# Altium integrated library SignalCommunications.IntLib: 804 symbols (part 9 of 10)
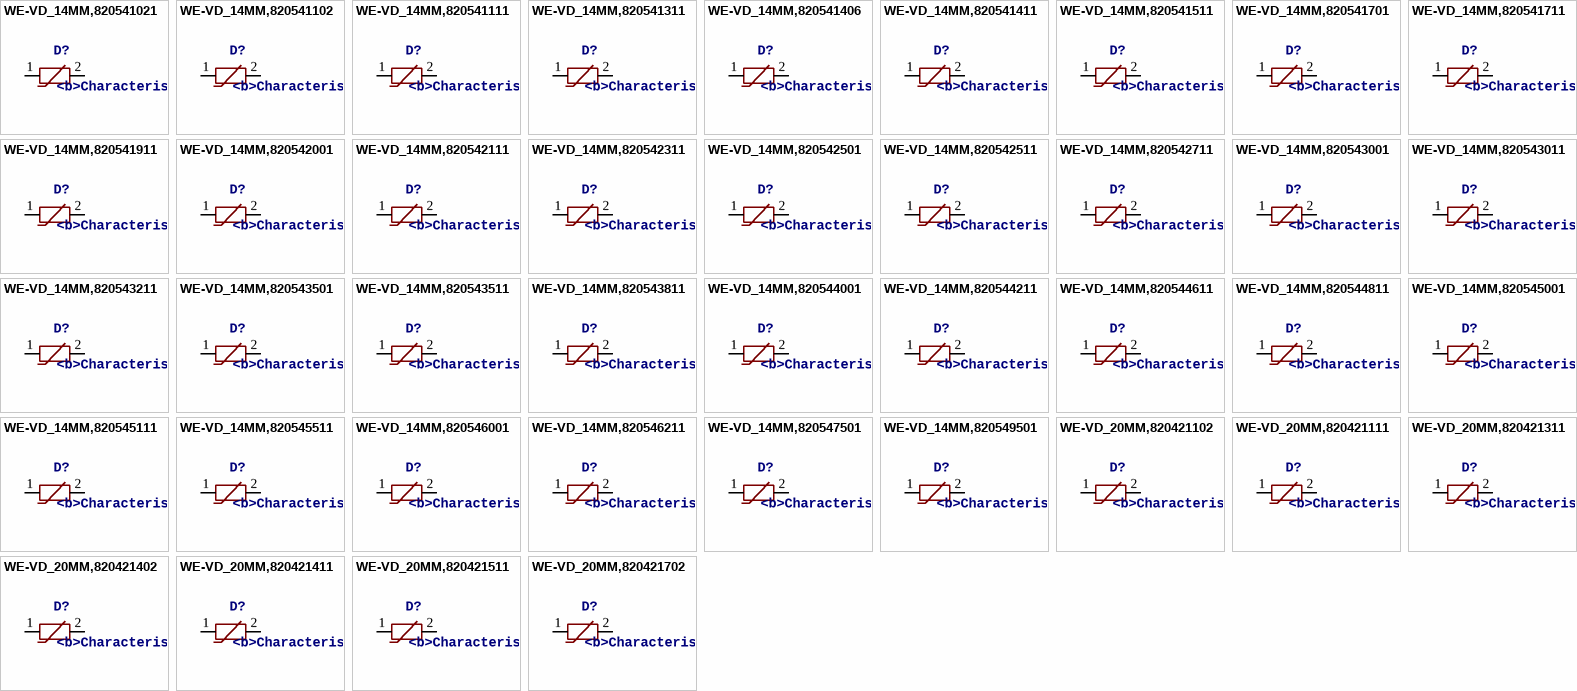
[diagram p50: symbols WE-VD_14MM,820541021 to WE-VD_20MM,820421702]

## WE-VD_14MM,820542511
designator D?, comment <b>Characteristics:</b> / <pre>•Low clamping voltage / •After a surge impulse the varistor works immediately / in normal mode so there is no slip current / •Excellent absorption at surge impulses</pre><br> / <b>Applications:</b> / <pre> / •12–48 VDC distribution / •110–400 V power supply / •Leakage of voltage peaks / •Surge protection in accordance with EN 61000-4-5 / </pre>
MANUFACTURER: Würth Elektronik eiSos GmbH; CREATED-BY: Christin Zierenner; COMPANY-URL: http://www.we-online.de; CREATED-DATE: May 2012; DATASHEET-URL: http://katalog.we-online.de/kataloge/eisos/media/pdf/820542511.pdf
footprint WE-VD_14MM-1.1
pins: 1, 2

## WE-VD_14MM,820542711
designator D?, comment <b>Characteristics:</b> / <pre>•Low clamping voltage / •After a surge impulse the varistor works immediately / in normal mode so there is no slip current / •Excellent absorption at surge impulses</pre><br> / <b>Applications:</b> / <pre> / •12–48 VDC distribution / •110–400 V power supply / •Leakage of voltage peaks / •Surge protection in accordance with EN 61000-4-5 / </pre>
MANUFACTURER: Würth Elektronik eiSos GmbH; CREATED-BY: Christin Zierenner; COMPANY-URL: http://www.we-online.de; CREATED-DATE: May 2012; DATASHEET-URL: http://katalog.we-online.de/kataloge/eisos/media/pdf/820542711.pdf
footprint WE-VD_14MM-1.3
pins: 1, 2

## WE-VD_14MM,820543001
designator D?, comment <b>Characteristics:</b> / <pre>•Low clamping voltage / •After a surge impulse the varistor works immediately / in normal mode so there is no slip current / •Excellent absorption at surge impulses</pre><br> / <b>Applications:</b> / <pre> / •12–48 VDC distribution / •110–400 V power supply / •Leakage of voltage peaks / •Surge protection in accordance with EN 61000-4-5 / </pre>
MANUFACTURER: Würth Elektronik eiSos GmbH; CREATED-BY: Christin Zierenner; COMPANY-URL: http://www.we-online.de; CREATED-DATE: May 2012; DATASHEET-URL: http://katalog.we-online.de/kataloge/eisos/media/pdf/820543001.pdf
footprint WE-VD_14MM-DIA
pins: 1, 2

## WE-VD_14MM,820543011
designator D?, comment <b>Characteristics:</b> / <pre>•Low clamping voltage / •After a surge impulse the varistor works immediately / in normal mode so there is no slip current / •Excellent absorption at surge impulses</pre><br> / <b>Applications:</b> / <pre> / •12–48 VDC distribution / •110–400 V power supply / •Leakage of voltage peaks / •Surge protection in accordance with EN 61000-4-5 / </pre>
MANUFACTURER: Würth Elektronik eiSos GmbH; CREATED-BY: Christin Zierenner; COMPANY-URL: http://www.we-online.de; CREATED-DATE: May 2012; DATASHEET-URL: http://katalog.we-online.de/kataloge/eisos/media/pdf/820543011.pdf
footprint WE-VD_14MM-1.5
pins: 1, 2

## WE-VD_14MM,820543211
designator D?, comment <b>Characteristics:</b> / <pre>•Low clamping voltage / •After a surge impulse the varistor works immediately / in normal mode so there is no slip current / •Excellent absorption at surge impulses</pre><br> / <b>Applications:</b> / <pre> / •12–48 VDC distribution / •110–400 V power supply / •Leakage of voltage peaks / •Surge protection in accordance with EN 61000-4-5 / </pre>
MANUFACTURER: Würth Elektronik eiSos GmbH; CREATED-BY: Christin Zierenner; COMPANY-URL: http://www.we-online.de; CREATED-DATE: May 2012; DATASHEET-URL: http://katalog.we-online.de/kataloge/eisos/index.php?language=en&pf=WE-VD
footprint WE-VD_14MM-1.6
pins: 1, 2

## WE-VD_14MM,820543501
designator D?, comment <b>Characteristics:</b> / <pre>•Low clamping voltage / •After a surge impulse the varistor works immediately / in normal mode so there is no slip current / •Excellent absorption at surge impulses</pre><br> / <b>Applications:</b> / <pre> / •12–48 VDC distribution / •110–400 V power supply / •Leakage of voltage peaks / •Surge protection in accordance with EN 61000-4-5 / </pre>
MANUFACTURER: Würth Elektronik eiSos GmbH; CREATED-BY: Christin Zierenner; COMPANY-URL: http://www.we-online.de; CREATED-DATE: May 2012; DATASHEET-URL: http://katalog.we-online.de/kataloge/eisos/index.php?language=en&pf=WE-VD
footprint WE-VD_14MM-0.9
pins: 1, 2

## WE-VD_14MM,820543511
designator D?, comment <b>Characteristics:</b> / <pre>•Low clamping voltage / •After a surge impulse the varistor works immediately / in normal mode so there is no slip current / •Excellent absorption at surge impulses</pre><br> / <b>Applications:</b> / <pre> / •12–48 VDC distribution / •110–400 V power supply / •Leakage of voltage peaks / •Surge protection in accordance with EN 61000-4-5 / </pre>
MANUFACTURER: Würth Elektronik eiSos GmbH; CREATED-BY: Christin Zierenner; COMPANY-URL: http://www.we-online.de; CREATED-DATE: May 2012; DATASHEET-URL: http://katalog.we-online.de/kataloge/eisos/index.php?language=en&pf=WE-VD
footprint WE-VD_14MM-1.9
pins: 1, 2

## WE-VD_14MM,820543811
designator D?, comment <b>Characteristics:</b> / <pre>•Low clamping voltage / •After a surge impulse the varistor works immediately / in normal mode so there is no slip current / •Excellent absorption at surge impulses</pre><br> / <b>Applications:</b> / <pre> / •12–48 VDC distribution / •110–400 V power supply / •Leakage of voltage peaks / •Surge protection in accordance with EN 61000-4-5 / </pre>
MANUFACTURER: Würth Elektronik eiSos GmbH; CREATED-BY: Christin Zierenner; COMPANY-URL: http://www.we-online.de; CREATED-DATE: May 2012; DATASHEET-URL: http://katalog.we-online.de/kataloge/eisos/index.php?language=en&pf=WE-VD
footprint WE-VD_14MM-2.2
pins: 1, 2

## WE-VD_14MM,820544001
designator D?, comment <b>Characteristics:</b> / <pre>•Low clamping voltage / •After a surge impulse the varistor works immediately / in normal mode so there is no slip current / •Excellent absorption at surge impulses</pre><br> / <b>Applications:</b> / <pre> / •12–48 VDC distribution / •110–400 V power supply / •Leakage of voltage peaks / •Surge protection in accordance with EN 61000-4-5 / </pre>
MANUFACTURER: Würth Elektronik eiSos GmbH; CREATED-BY: Christin Zierenner; COMPANY-URL: http://www.we-online.de; CREATED-DATE: May 2012; DATASHEET-URL: http://katalog.we-online.de/kataloge/eisos/index.php?language=en&pf=WE-VD
footprint WE-VD_14MM-1.3
pins: 1, 2

## WE-VD_14MM,820544211
designator D?, comment <b>Characteristics:</b> / <pre>•Low clamping voltage / •After a surge impulse the varistor works immediately / in normal mode so there is no slip current / •Excellent absorption at surge impulses</pre><br> / <b>Applications:</b> / <pre> / •12–48 VDC distribution / •110–400 V power supply / •Leakage of voltage peaks / •Surge protection in accordance with EN 61000-4-5 / </pre>
MANUFACTURER: Würth Elektronik eiSos GmbH; CREATED-BY: Christin Zierenner; COMPANY-URL: http://www.we-online.de; CREATED-DATE: May 2012; DATASHEET-URL: http://katalog.we-online.de/kataloge/eisos/media/pdf/820544211.pdf
footprint WE-VD_14MM-2.5
pins: 1, 2

## WE-VD_14MM,820544611
designator D?, comment <b>Characteristics:</b> / <pre>•Low clamping voltage / •After a surge impulse the varistor works immediately / in normal mode so there is no slip current / •Excellent absorption at surge impulses</pre><br> / <b>Applications:</b> / <pre> / •12–48 VDC distribution / •110–400 V power supply / •Leakage of voltage peaks / •Surge protection in accordance with EN 61000-4-5 / </pre>
MANUFACTURER: Würth Elektronik eiSos GmbH; CREATED-BY: Christin Zierenner; COMPANY-URL: http://www.we-online.de; CREATED-DATE: May 2012; DATASHEET-URL: http://katalog.we-online.de/kataloge/eisos/media/pdf/820544611.pdf
footprint WE-VD_14MM-2.8
pins: 1, 2

## WE-VD_14MM,820544811
designator D?, comment <b>Characteristics:</b> / <pre>•Low clamping voltage / •After a surge impulse the varistor works immediately / in normal mode so there is no slip current / •Excellent absorption at surge impulses</pre><br> / <b>Applications:</b> / <pre> / •12–48 VDC distribution / •110–400 V power supply / •Leakage of voltage peaks / •Surge protection in accordance with EN 61000-4-5 / </pre>
MANUFACTURER: Würth Elektronik eiSos GmbH; CREATED-BY: Christin Zierenner; COMPANY-URL: http://www.we-online.de; CREATED-DATE: May 2012; DATASHEET-URL: http://katalog.we-online.de/kataloge/eisos/index.php?language=en&pf=WE-VD
footprint WE-VD_14MM-2.9
pins: 1, 2

## WE-VD_14MM,820545001
designator D?, comment <b>Characteristics:</b> / <pre>•Low clamping voltage / •After a surge impulse the varistor works immediately / in normal mode so there is no slip current / •Excellent absorption at surge impulses</pre><br> / <b>Applications:</b> / <pre> / •12–48 VDC distribution / •110–400 V power supply / •Leakage of voltage peaks / •Surge protection in accordance with EN 61000-4-5 / </pre>
MANUFACTURER: Würth Elektronik eiSos GmbH; CREATED-BY: Christin Zierenner; COMPANY-URL: http://www.we-online.de; CREATED-DATE: May 2012; DATASHEET-URL: http://katalog.we-online.de/kataloge/eisos/index.php?language=en&pf=WE-VD
footprint WE-VD_14MM-DIA
pins: 1, 2

## WE-VD_14MM,820545111
designator D?, comment <b>Characteristics:</b> / <pre>•Low clamping voltage / •After a surge impulse the varistor works immediately / in normal mode so there is no slip current / •Excellent absorption at surge impulses</pre><br> / <b>Applications:</b> / <pre> / •12–48 VDC distribution / •110–400 V power supply / •Leakage of voltage peaks / •Surge protection in accordance with EN 61000-4-5 / </pre>
MANUFACTURER: Würth Elektronik eiSos GmbH; CREATED-BY: Christin Zierenner; COMPANY-URL: http://www.we-online.de; CREATED-DATE: May 2012; DATASHEET-URL: http://katalog.we-online.de/kataloge/eisos/media/pdf/820545111.pdf
footprint WE-VD_14MM-3.1
pins: 1, 2

## WE-VD_14MM,820545511
designator D?, comment <b>Characteristics:</b> / <pre>•Low clamping voltage / •After a surge impulse the varistor works immediately / in normal mode so there is no slip current / •Excellent absorption at surge impulses</pre><br> / <b>Applications:</b> / <pre> / •12–48 VDC distribution / •110–400 V power supply / •Leakage of voltage peaks / •Surge protection in accordance with EN 61000-4-5 / </pre>
MANUFACTURER: Würth Elektronik eiSos GmbH; CREATED-BY: Christin Zierenner; COMPANY-URL: http://www.we-online.de; CREATED-DATE: May 2012; DATASHEET-URL: http://katalog.we-online.de/kataloge/eisos/index.php?language=en&pf=WE-VD
footprint WE-VD_14MM-3.6
pins: 1, 2

## WE-VD_14MM,820546001
designator D?, comment <b>Characteristics:</b> / <pre>•Low clamping voltage / •After a surge impulse the varistor works immediately / in normal mode so there is no slip current / •Excellent absorption at surge impulses</pre><br> / <b>Applications:</b> / <pre> / •12–48 VDC distribution / •110–400 V power supply / •Leakage of voltage peaks / •Surge protection in accordance with EN 61000-4-5 / </pre>
MANUFACTURER: Würth Elektronik eiSos GmbH; CREATED-BY: Christin Zierenner; COMPANY-URL: http://www.we-online.de; CREATED-DATE: May 2012; DATASHEET-URL: http://katalog.we-online.de/kataloge/eisos/index.php?language=en&pf=WE-VD
footprint WE-VD_14MM-DIA
pins: 1, 2

## WE-VD_14MM,820546211
designator D?, comment <b>Characteristics:</b> / <pre>•Low clamping voltage / •After a surge impulse the varistor works immediately / in normal mode so there is no slip current / •Excellent absorption at surge impulses</pre><br> / <b>Applications:</b> / <pre> / •12–48 VDC distribution / •110–400 V power supply / •Leakage of voltage peaks / •Surge protection in accordance with EN 61000-4-5 / </pre>
MANUFACTURER: Würth Elektronik eiSos GmbH; CREATED-BY: Christin Zierenner; COMPANY-URL: http://www.we-online.de; CREATED-DATE: May 2012; DATASHEET-URL: http://katalog.we-online.de/kataloge/eisos/index.php?language=en&pf=WE-VD
footprint WE-VD_14MM-4.0
pins: 1, 2

## WE-VD_14MM,820547501
designator D?, comment <b>Characteristics:</b> / <pre>•Low clamping voltage / •After a surge impulse the varistor works immediately / in normal mode so there is no slip current / •Excellent absorption at surge impulses</pre><br> / <b>Applications:</b> / <pre> / •12–48 VDC distribution / •110–400 V power supply / •Leakage of voltage peaks / •Surge protection in accordance with EN 61000-4-5 / </pre>
MANUFACTURER: Würth Elektronik eiSos GmbH; CREATED-BY: Christin Zierenner; COMPANY-URL: http://www.we-online.de; CREATED-DATE: May 2012; DATASHEET-URL: http://katalog.we-online.de/kataloge/eisos/index.php?language=en&pf=WE-VD
footprint WE-VD_14MM-DIA
pins: 1, 2

## WE-VD_14MM,820549501
designator D?, comment <b>Characteristics:</b> / <pre>•Low clamping voltage / •After a surge impulse the varistor works immediately / in normal mode so there is no slip current / •Excellent absorption at surge impulses</pre><br> / <b>Applications:</b> / <pre> / •12–48 VDC distribution / •110–400 V power supply / •Leakage of voltage peaks / •Surge protection in accordance with EN 61000-4-5 / </pre>
MANUFACTURER: Würth Elektronik eiSos GmbH; CREATED-BY: Christin Zierenner; COMPANY-URL: http://www.we-online.de; CREATED-DATE: May 2012; DATASHEET-URL: http://katalog.we-online.de/kataloge/eisos/index.php?language=en&pf=WE-VD
footprint WE-VD_14MM-DIA
pins: 1, 2

## WE-VD_20MM,820421102
designator D?, comment <b>Characteristics:</b> / <pre>•Low clamping voltage / •After a surge impulse the varistor works immediately / in normal mode so there is no slip current / •Excellent absorption at surge impulses</pre><br> / <b>Applications:</b> / <pre> / •12–48 VDC distribution / •110–400 V power supply / •Leakage of voltage peaks / •Surge protection in accordance with EN 61000-4-5 / </pre>
MANUFACTURER: Würth Elektronik eiSos GmbH; CREATED-BY: Christin Zierenner; COMPANY-URL: http://www.we-online.de; CREATED-DATE: May 2012; DATASHEET-URL: http://katalog.we-online.de/kataloge/eisos/index.php?language=en&pf=WE-VD
footprint WE-VD_20MM-DIA
pins: 1, 2

## WE-VD_20MM,820421111
designator D?, comment <b>Characteristics:</b> / <pre>•Low clamping voltage / •After a surge impulse the varistor works immediately / in normal mode so there is no slip current / •Excellent absorption at surge impulses</pre><br> / <b>Applications:</b> / <pre> / •12–48 VDC distribution / •110–400 V power supply / •Leakage of voltage peaks / •Surge protection in accordance with EN 61000-4-5 / </pre>
MANUFACTURER: Würth Elektronik eiSos GmbH; CREATED-BY: Christin Zierenner; COMPANY-URL: http://www.we-online.de; CREATED-DATE: May 2012; DATASHEET-URL: http://katalog.we-online.de/kataloge/eisos/index.php?language=en&pf=WE-VD
footprint WE-VD_20MM-DIA
pins: 1, 2

## WE-VD_20MM,820421311
designator D?, comment <b>Characteristics:</b> / <pre>•Low clamping voltage / •After a surge impulse the varistor works immediately / in normal mode so there is no slip current / •Excellent absorption at surge impulses</pre><br> / <b>Applications:</b> / <pre> / •12–48 VDC distribution / •110–400 V power supply / •Leakage of voltage peaks / •Surge protection in accordance with EN 61000-4-5 / </pre>
MANUFACTURER: Würth Elektronik eiSos GmbH; CREATED-BY: Christin Zierenner; COMPANY-URL: http://www.we-online.de; CREATED-DATE: May 2012; DATASHEET-URL: http://katalog.we-online.de/kataloge/eisos/index.php?language=en&pf=WE-VD
footprint WE-VD_20MM-DIA
pins: 1, 2

## WE-VD_20MM,820421402
designator D?, comment <b>Characteristics:</b> / <pre>•Low clamping voltage / •After a surge impulse the varistor works immediately / in normal mode so there is no slip current / •Excellent absorption at surge impulses</pre><br> / <b>Applications:</b> / <pre> / •12–48 VDC distribution / •110–400 V power supply / •Leakage of voltage peaks / •Surge protection in accordance with EN 61000-4-5 / </pre>
MANUFACTURER: Würth Elektronik eiSos GmbH; CREATED-BY: Christin Zierenner; COMPANY-URL: http://www.we-online.de; CREATED-DATE: May 2012; DATASHEET-URL: http://katalog.we-online.de/kataloge/eisos/index.php?language=en&pf=WE-VD
footprint WE-VD_20MM-DIA
pins: 1, 2

## WE-VD_20MM,820421411
designator D?, comment <b>Characteristics:</b> / <pre>•Low clamping voltage / •After a surge impulse the varistor works immediately / in normal mode so there is no slip current / •Excellent absorption at surge impulses</pre><br> / <b>Applications:</b> / <pre> / •12–48 VDC distribution / •110–400 V power supply / •Leakage of voltage peaks / •Surge protection in accordance with EN 61000-4-5 / </pre>
MANUFACTURER: Würth Elektronik eiSos GmbH; CREATED-BY: Christin Zierenner; COMPANY-URL: http://www.we-online.de; CREATED-DATE: May 2012; DATASHEET-URL: http://katalog.we-online.de/kataloge/eisos/index.php?language=en&pf=WE-VD
footprint WE-VD_20MM-DIA
pins: 1, 2

## WE-VD_20MM,820421511
designator D?, comment <b>Characteristics:</b> / <pre>•Low clamping voltage / •After a surge impulse the varistor works immediately / in normal mode so there is no slip current / •Excellent absorption at surge impulses</pre><br> / <b>Applications:</b> / <pre> / •12–48 VDC distribution / •110–400 V power supply / •Leakage of voltage peaks / •Surge protection in accordance with EN 61000-4-5 / </pre>
MANUFACTURER: Würth Elektronik eiSos GmbH; CREATED-BY: Christin Zierenner; COMPANY-URL: http://www.we-online.de; CREATED-DATE: May 2012; DATASHEET-URL: http://katalog.we-online.de/kataloge/eisos/index.php?language=en&pf=WE-VD
footprint WE-VD_20MM-DIA
pins: 1, 2

## WE-VD_20MM,820421702
designator D?, comment <b>Characteristics:</b> / <pre>•Low clamping voltage / •After a surge impulse the varistor works immediately / in normal mode so there is no slip current / •Excellent absorption at surge impulses</pre><br> / <b>Applications:</b> / <pre> / •12–48 VDC distribution / •110–400 V power supply / •Leakage of voltage peaks / •Surge protection in accordance with EN 61000-4-5 / </pre>
MANUFACTURER: Würth Elektronik eiSos GmbH; CREATED-BY: Christin Zierenner; COMPANY-URL: http://www.we-online.de; CREATED-DATE: May 2012; DATASHEET-URL: http://katalog.we-online.de/kataloge/eisos/index.php?language=en&pf=WE-VD
footprint WE-VD_20MM-DIA
pins: 1, 2

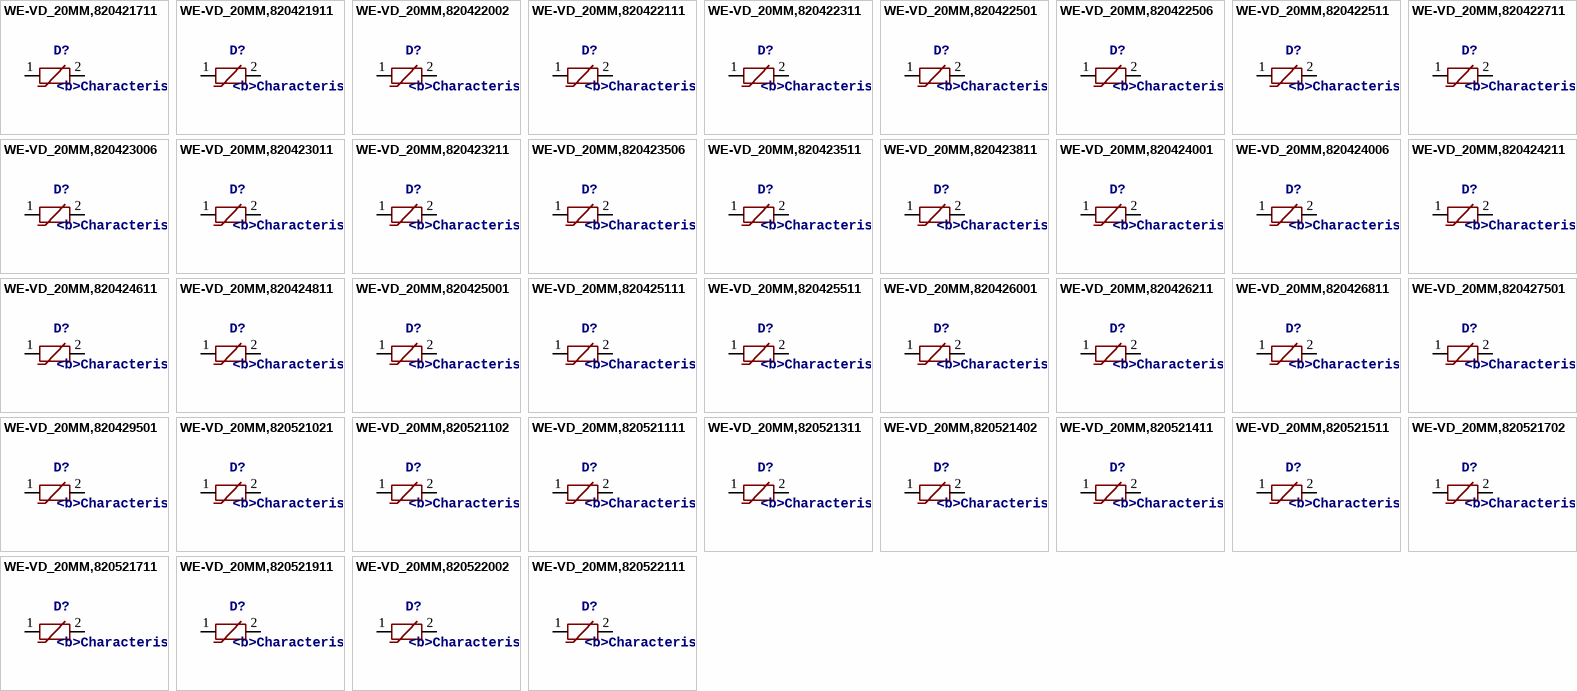
[diagram p40: symbols WE-VD_20MM,820421711 to WE-VD_20MM,820522111]

## WE-VD_20MM,820421711
designator D?, comment <b>Characteristics:</b> / <pre>•Low clamping voltage / •After a surge impulse the varistor works immediately / in normal mode so there is no slip current / •Excellent absorption at surge impulses</pre><br> / <b>Applications:</b> / <pre> / •12–48 VDC distribution / •110–400 V power supply / •Leakage of voltage peaks / •Surge protection in accordance with EN 61000-4-5 / </pre>
MANUFACTURER: Würth Elektronik eiSos GmbH; CREATED-BY: Christin Zierenner; COMPANY-URL: http://www.we-online.de; CREATED-DATE: May 2012; DATASHEET-URL: http://katalog.we-online.de/kataloge/eisos/index.php?language=en&pf=WE-VD
footprint WE-VD_20MM-DIA
pins: 1, 2

## WE-VD_20MM,820421911
designator D?, comment <b>Characteristics:</b> / <pre>•Low clamping voltage / •After a surge impulse the varistor works immediately / in normal mode so there is no slip current / •Excellent absorption at surge impulses</pre><br> / <b>Applications:</b> / <pre> / •12–48 VDC distribution / •110–400 V power supply / •Leakage of voltage peaks / •Surge protection in accordance with EN 61000-4-5 / </pre>
MANUFACTURER: Würth Elektronik eiSos GmbH; CREATED-BY: Christin Zierenner; COMPANY-URL: http://www.we-online.de; CREATED-DATE: May 2012; DATASHEET-URL: http://katalog.we-online.de/kataloge/eisos/index.php?language=en&pf=WE-VD
footprint WE-VD_20MM-DIA
pins: 1, 2

## WE-VD_20MM,820422002
designator D?, comment <b>Characteristics:</b> / <pre>•Low clamping voltage / •After a surge impulse the varistor works immediately / in normal mode so there is no slip current / •Excellent absorption at surge impulses</pre><br> / <b>Applications:</b> / <pre> / •12–48 VDC distribution / •110–400 V power supply / •Leakage of voltage peaks / •Surge protection in accordance with EN 61000-4-5 / </pre>
MANUFACTURER: Würth Elektronik eiSos GmbH; CREATED-BY: Christin Zierenner; COMPANY-URL: http://www.we-online.de; CREATED-DATE: May 2012; DATASHEET-URL: http://katalog.we-online.de/kataloge/eisos/index.php?language=en&pf=WE-VD
footprint WE-VD_20MM-DIA
pins: 1, 2

## WE-VD_20MM,820422111
designator D?, comment <b>Characteristics:</b> / <pre>•Low clamping voltage / •After a surge impulse the varistor works immediately / in normal mode so there is no slip current / •Excellent absorption at surge impulses</pre><br> / <b>Applications:</b> / <pre> / •12–48 VDC distribution / •110–400 V power supply / •Leakage of voltage peaks / •Surge protection in accordance with EN 61000-4-5 / </pre>
MANUFACTURER: Würth Elektronik eiSos GmbH; CREATED-BY: Christin Zierenner; COMPANY-URL: http://www.we-online.de; CREATED-DATE: May 2012; DATASHEET-URL: http://katalog.we-online.de/kataloge/eisos/index.php?language=en&pf=WE-VD
footprint WE-VD_20MM-DIA
pins: 1, 2

## WE-VD_20MM,820422311
designator D?, comment <b>Characteristics:</b> / <pre>•Low clamping voltage / •After a surge impulse the varistor works immediately / in normal mode so there is no slip current / •Excellent absorption at surge impulses</pre><br> / <b>Applications:</b> / <pre> / •12–48 VDC distribution / •110–400 V power supply / •Leakage of voltage peaks / •Surge protection in accordance with EN 61000-4-5 / </pre>
MANUFACTURER: Würth Elektronik eiSos GmbH; CREATED-BY: Christin Zierenner; COMPANY-URL: http://www.we-online.de; CREATED-DATE: May 2012; DATASHEET-URL: http://katalog.we-online.de/kataloge/eisos/index.php?language=en&pf=WE-VD
footprint WE-VD_20MM-DIA
pins: 1, 2

## WE-VD_20MM,820422501
designator D?, comment <b>Characteristics:</b> / <pre>•Low clamping voltage / •After a surge impulse the varistor works immediately / in normal mode so there is no slip current / •Excellent absorption at surge impulses</pre><br> / <b>Applications:</b> / <pre> / •12–48 VDC distribution / •110–400 V power supply / •Leakage of voltage peaks / •Surge protection in accordance with EN 61000-4-5 / </pre>
MANUFACTURER: Würth Elektronik eiSos GmbH; CREATED-BY: Christin Zierenner; COMPANY-URL: http://www.we-online.de; CREATED-DATE: May 2012; DATASHEET-URL: http://katalog.we-online.de/kataloge/eisos/index.php?language=en&pf=WE-VD
footprint WE-VD_20MM-DIA
pins: 1, 2

## WE-VD_20MM,820422506
designator D?, comment <b>Characteristics:</b> / <pre>•Low clamping voltage / •After a surge impulse the varistor works immediately / in normal mode so there is no slip current / •Excellent absorption at surge impulses</pre><br> / <b>Applications:</b> / <pre> / •12–48 VDC distribution / •110–400 V power supply / •Leakage of voltage peaks / •Surge protection in accordance with EN 61000-4-5 / </pre>
MANUFACTURER: Würth Elektronik eiSos GmbH; CREATED-BY: Christin Zierenner; COMPANY-URL: http://www.we-online.de; CREATED-DATE: May 2012; DATASHEET-URL: http://katalog.we-online.de/kataloge/eisos/index.php?language=en&pf=WE-VD
footprint WE-VD_20MM-DIA
pins: 1, 2

## WE-VD_20MM,820422511
designator D?, comment <b>Characteristics:</b> / <pre>•Low clamping voltage / •After a surge impulse the varistor works immediately / in normal mode so there is no slip current / •Excellent absorption at surge impulses</pre><br> / <b>Applications:</b> / <pre> / •12–48 VDC distribution / •110–400 V power supply / •Leakage of voltage peaks / •Surge protection in accordance with EN 61000-4-5 / </pre>
MANUFACTURER: Würth Elektronik eiSos GmbH; CREATED-BY: Christin Zierenner; COMPANY-URL: http://www.we-online.de; CREATED-DATE: May 2012; DATASHEET-URL: http://katalog.we-online.de/kataloge/eisos/index.php?language=en&pf=WE-VD
footprint WE-VD_20MM-0.9
pins: 1, 2

## WE-VD_20MM,820422711
designator D?, comment <b>Characteristics:</b> / <pre>•Low clamping voltage / •After a surge impulse the varistor works immediately / in normal mode so there is no slip current / •Excellent absorption at surge impulses</pre><br> / <b>Applications:</b> / <pre> / •12–48 VDC distribution / •110–400 V power supply / •Leakage of voltage peaks / •Surge protection in accordance with EN 61000-4-5 / </pre>
MANUFACTURER: Würth Elektronik eiSos GmbH; CREATED-BY: Christin Zierenner; COMPANY-URL: http://www.we-online.de; CREATED-DATE: May 2012; DATASHEET-URL: http://katalog.we-online.de/kataloge/eisos/media/pdf/820422711.pdf
footprint WE-VD_20MM-1.1
pins: 1, 2

## WE-VD_20MM,820423006
designator D?, comment <b>Characteristics:</b> / <pre>•Low clamping voltage / •After a surge impulse the varistor works immediately / in normal mode so there is no slip current / •Excellent absorption at surge impulses</pre><br> / <b>Applications:</b> / <pre> / •12–48 VDC distribution / •110–400 V power supply / •Leakage of voltage peaks / •Surge protection in accordance with EN 61000-4-5 / </pre>
MANUFACTURER: Würth Elektronik eiSos GmbH; CREATED-BY: Christin Zierenner; COMPANY-URL: http://www.we-online.de; CREATED-DATE: May 2012; DATASHEET-URL: http://katalog.we-online.de/kataloge/eisos/index.php?language=en&pf=WE-VD
footprint WE-VD_20MM-DIA
pins: 1, 2

## WE-VD_20MM,820423011
designator D?, comment <b>Characteristics:</b> / <pre>•Low clamping voltage / •After a surge impulse the varistor works immediately / in normal mode so there is no slip current / •Excellent absorption at surge impulses</pre><br> / <b>Applications:</b> / <pre> / •12–48 VDC distribution / •110–400 V power supply / •Leakage of voltage peaks / •Surge protection in accordance with EN 61000-4-5 / </pre>
MANUFACTURER: Würth Elektronik eiSos GmbH; CREATED-BY: Christin Zierenner; COMPANY-URL: http://www.we-online.de; CREATED-DATE: May 2012; DATASHEET-URL: http://katalog.we-online.de/kataloge/eisos/index.php?language=en&pf=WE-VD
footprint WE-VD_20MM-1.3
pins: 1, 2

## WE-VD_20MM,820423211
designator D?, comment <b>Characteristics:</b> / <pre>•Low clamping voltage / •After a surge impulse the varistor works immediately / in normal mode so there is no slip current / •Excellent absorption at surge impulses</pre><br> / <b>Applications:</b> / <pre> / •12–48 VDC distribution / •110–400 V power supply / •Leakage of voltage peaks / •Surge protection in accordance with EN 61000-4-5 / </pre>
MANUFACTURER: Würth Elektronik eiSos GmbH; CREATED-BY: Christin Zierenner; COMPANY-URL: http://www.we-online.de; CREATED-DATE: May 2012; DATASHEET-URL: http://katalog.we-online.de/kataloge/eisos/media/pdf/820423211.pdf
footprint WE-VD_20MM-1.5
pins: 1, 2

## WE-VD_20MM,820423506
designator D?, comment <b>Characteristics:</b> / <pre>•Low clamping voltage / •After a surge impulse the varistor works immediately / in normal mode so there is no slip current / •Excellent absorption at surge impulses</pre><br> / <b>Applications:</b> / <pre> / •12–48 VDC distribution / •110–400 V power supply / •Leakage of voltage peaks / •Surge protection in accordance with EN 61000-4-5 / </pre>
MANUFACTURER: Würth Elektronik eiSos GmbH; CREATED-BY: Christin Zierenner; COMPANY-URL: http://www.we-online.de; CREATED-DATE: May 2012; DATASHEET-URL: http://katalog.we-online.de/kataloge/eisos/index.php?language=en&pf=WE-VD
footprint WE-VD_20MM-DIA
pins: 1, 2

## WE-VD_20MM,820423511
designator D?, comment <b>Characteristics:</b> / <pre>•Low clamping voltage / •After a surge impulse the varistor works immediately / in normal mode so there is no slip current / •Excellent absorption at surge impulses</pre><br> / <b>Applications:</b> / <pre> / •12–48 VDC distribution / •110–400 V power supply / •Leakage of voltage peaks / •Surge protection in accordance with EN 61000-4-5 / </pre>
MANUFACTURER: Würth Elektronik eiSos GmbH; CREATED-BY: Christin Zierenner; COMPANY-URL: http://www.we-online.de; CREATED-DATE: May 2012; DATASHEET-URL: http://katalog.we-online.de/kataloge/eisos/index.php?language=en&pf=WE-VD
footprint WE-VD_20MM-1.7
pins: 1, 2

## WE-VD_20MM,820423811
designator D?, comment <b>Characteristics:</b> / <pre>•Low clamping voltage / •After a surge impulse the varistor works immediately / in normal mode so there is no slip current / •Excellent absorption at surge impulses</pre><br> / <b>Applications:</b> / <pre> / •12–48 VDC distribution / •110–400 V power supply / •Leakage of voltage peaks / •Surge protection in accordance with EN 61000-4-5 / </pre>
MANUFACTURER: Würth Elektronik eiSos GmbH; CREATED-BY: Christin Zierenner; COMPANY-URL: http://www.we-online.de; CREATED-DATE: May 2012; DATASHEET-URL: http://katalog.we-online.de/kataloge/eisos/index.php?language=en&pf=WE-VD
footprint WE-VD_20MM-2.0
pins: 1, 2

## WE-VD_20MM,820424001
designator D?, comment <b>Characteristics:</b> / <pre>•Low clamping voltage / •After a surge impulse the varistor works immediately / in normal mode so there is no slip current / •Excellent absorption at surge impulses</pre><br> / <b>Applications:</b> / <pre> / •12–48 VDC distribution / •110–400 V power supply / •Leakage of voltage peaks / •Surge protection in accordance with EN 61000-4-5 / </pre>
MANUFACTURER: Würth Elektronik eiSos GmbH; CREATED-BY: Christin Zierenner; COMPANY-URL: http://www.we-online.de; CREATED-DATE: May 2012; DATASHEET-URL: http://katalog.we-online.de/kataloge/eisos/index.php?language=en&pf=WE-VD
footprint WE-VD_20MM-1.1
pins: 1, 2

## WE-VD_20MM,820424006
designator D?, comment <b>Characteristics:</b> / <pre>•Low clamping voltage / •After a surge impulse the varistor works immediately / in normal mode so there is no slip current / •Excellent absorption at surge impulses</pre><br> / <b>Applications:</b> / <pre> / •12–48 VDC distribution / •110–400 V power supply / •Leakage of voltage peaks / •Surge protection in accordance with EN 61000-4-5 / </pre>
MANUFACTURER: Würth Elektronik eiSos GmbH; CREATED-BY: Christin Zierenner; COMPANY-URL: http://www.we-online.de; CREATED-DATE: May 2012; DATASHEET-URL: http://katalog.we-online.de/kataloge/eisos/index.php?language=en&pf=WE-VD
footprint WE-VD_20MM-1.1
pins: 1, 2

## WE-VD_20MM,820424211
designator D?, comment <b>Characteristics:</b> / <pre>•Low clamping voltage / •After a surge impulse the varistor works immediately / in normal mode so there is no slip current / •Excellent absorption at surge impulses</pre><br> / <b>Applications:</b> / <pre> / •12–48 VDC distribution / •110–400 V power supply / •Leakage of voltage peaks / •Surge protection in accordance with EN 61000-4-5 / </pre>
MANUFACTURER: Würth Elektronik eiSos GmbH; CREATED-BY: Christin Zierenner; COMPANY-URL: http://www.we-online.de; CREATED-DATE: May 2012; DATASHEET-URL: http://katalog.we-online.de/kataloge/eisos/index.php?language=en&pf=WE-VD
footprint WE-VD_20MM-2.3
pins: 1, 2

## WE-VD_20MM,820424611
designator D?, comment <b>Characteristics:</b> / <pre>•Low clamping voltage / •After a surge impulse the varistor works immediately / in normal mode so there is no slip current / •Excellent absorption at surge impulses</pre><br> / <b>Applications:</b> / <pre> / •12–48 VDC distribution / •110–400 V power supply / •Leakage of voltage peaks / •Surge protection in accordance with EN 61000-4-5 / </pre>
MANUFACTURER: Würth Elektronik eiSos GmbH; CREATED-BY: Christin Zierenner; COMPANY-URL: http://www.we-online.de; CREATED-DATE: May 2012; DATASHEET-URL: http://katalog.we-online.de/kataloge/eisos/index.php?language=en&pf=WE-VD
footprint WE-VD_20MM-2.6
pins: 1, 2

## WE-VD_20MM,820424811
designator D?, comment <b>Characteristics:</b> / <pre>•Low clamping voltage / •After a surge impulse the varistor works immediately / in normal mode so there is no slip current / •Excellent absorption at surge impulses</pre><br> / <b>Applications:</b> / <pre> / •12–48 VDC distribution / •110–400 V power supply / •Leakage of voltage peaks / •Surge protection in accordance with EN 61000-4-5 / </pre>
MANUFACTURER: Würth Elektronik eiSos GmbH; CREATED-BY: Christin Zierenner; COMPANY-URL: http://www.we-online.de; CREATED-DATE: May 2012; DATASHEET-URL: http://katalog.we-online.de/kataloge/eisos/index.php?language=en&pf=WE-VD
footprint WE-VD_20MM-2.8
pins: 1, 2

## WE-VD_20MM,820425001
designator D?, comment <b>Characteristics:</b> / <pre>•Low clamping voltage / •After a surge impulse the varistor works immediately / in normal mode so there is no slip current / •Excellent absorption at surge impulses</pre><br> / <b>Applications:</b> / <pre> / •12–48 VDC distribution / •110–400 V power supply / •Leakage of voltage peaks / •Surge protection in accordance with EN 61000-4-5 / </pre>
MANUFACTURER: Würth Elektronik eiSos GmbH; CREATED-BY: Christin Zierenner; COMPANY-URL: http://www.we-online.de; CREATED-DATE: May 2012; DATASHEET-URL: http://katalog.we-online.de/kataloge/eisos/index.php?language=en&pf=WE-VD
footprint WE-VD_20MM-1.2
pins: 1, 2

## WE-VD_20MM,820425111
designator D?, comment <b>Characteristics:</b> / <pre>•Low clamping voltage / •After a surge impulse the varistor works immediately / in normal mode so there is no slip current / •Excellent absorption at surge impulses</pre><br> / <b>Applications:</b> / <pre> / •12–48 VDC distribution / •110–400 V power supply / •Leakage of voltage peaks / •Surge protection in accordance with EN 61000-4-5 / </pre>
MANUFACTURER: Würth Elektronik eiSos GmbH; CREATED-BY: Christin Zierenner; COMPANY-URL: http://www.we-online.de; CREATED-DATE: May 2012; DATASHEET-URL: http://katalog.we-online.de/kataloge/eisos/index.php?language=en&pf=WE-VD
footprint WE-VD_20MM-2.9
pins: 1, 2

## WE-VD_20MM,820425511
designator D?, comment <b>Characteristics:</b> / <pre>•Low clamping voltage / •After a surge impulse the varistor works immediately / in normal mode so there is no slip current / •Excellent absorption at surge impulses</pre><br> / <b>Applications:</b> / <pre> / •12–48 VDC distribution / •110–400 V power supply / •Leakage of voltage peaks / •Surge protection in accordance with EN 61000-4-5 / </pre>
MANUFACTURER: Würth Elektronik eiSos GmbH; CREATED-BY: Christin Zierenner; COMPANY-URL: http://www.we-online.de; CREATED-DATE: May 2012; DATASHEET-URL: http://katalog.we-online.de/kataloge/eisos/media/pdf/820425511.pdf
footprint WE-VD_20MM-3.4
pins: 1, 2

## WE-VD_20MM,820426001
designator D?, comment <b>Characteristics:</b> / <pre>•Low clamping voltage / •After a surge impulse the varistor works immediately / in normal mode so there is no slip current / •Excellent absorption at surge impulses</pre><br> / <b>Applications:</b> / <pre> / •12–48 VDC distribution / •110–400 V power supply / •Leakage of voltage peaks / •Surge protection in accordance with EN 61000-4-5 / </pre>
MANUFACTURER: Würth Elektronik eiSos GmbH; CREATED-BY: Christin Zierenner; COMPANY-URL: http://www.we-online.de; CREATED-DATE: May 2012; DATASHEET-URL: http://katalog.we-online.de/kataloge/eisos/index.php?language=en&pf=WE-VD
footprint WE-VD_20MM-DIA
pins: 1, 2

## WE-VD_20MM,820426211
designator D?, comment <b>Characteristics:</b> / <pre>•Low clamping voltage / •After a surge impulse the varistor works immediately / in normal mode so there is no slip current / •Excellent absorption at surge impulses</pre><br> / <b>Applications:</b> / <pre> / •12–48 VDC distribution / •110–400 V power supply / •Leakage of voltage peaks / •Surge protection in accordance with EN 61000-4-5 / </pre>
MANUFACTURER: Würth Elektronik eiSos GmbH; CREATED-BY: Christin Zierenner; COMPANY-URL: http://www.we-online.de; CREATED-DATE: May 2012; DATASHEET-URL: http://katalog.we-online.de/kataloge/eisos/index.php?language=en&pf=WE-VD
footprint WE-VD_20MM-3.8
pins: 1, 2

## WE-VD_20MM,820426811
designator D?, comment <b>Characteristics:</b> / <pre>•Low clamping voltage / •After a surge impulse the varistor works immediately / in normal mode so there is no slip current / •Excellent absorption at surge impulses</pre><br> / <b>Applications:</b> / <pre> / •12–48 VDC distribution / •110–400 V power supply / •Leakage of voltage peaks / •Surge protection in accordance with EN 61000-4-5 / </pre>
MANUFACTURER: Würth Elektronik eiSos GmbH; CREATED-BY: Christin Zierenner; COMPANY-URL: http://www.we-online.de; CREATED-DATE: May 2012; DATASHEET-URL: http://katalog.we-online.de/kataloge/eisos/media/pdf/820426811.pdf
footprint WE-VD_20MM-4.3
pins: 1, 2

## WE-VD_20MM,820427501
designator D?, comment <b>Characteristics:</b> / <pre>•Low clamping voltage / •After a surge impulse the varistor works immediately / in normal mode so there is no slip current / •Excellent absorption at surge impulses</pre><br> / <b>Applications:</b> / <pre> / •12–48 VDC distribution / •110–400 V power supply / •Leakage of voltage peaks / •Surge protection in accordance with EN 61000-4-5 / </pre>
MANUFACTURER: Würth Elektronik eiSos GmbH; CREATED-BY: Christin Zierenner; COMPANY-URL: http://www.we-online.de; CREATED-DATE: May 2012; DATASHEET-URL: http://katalog.we-online.de/kataloge/eisos/index.php?language=en&pf=WE-VD
footprint WE-VD_20MM-DIA
pins: 1, 2

## WE-VD_20MM,820429501
designator D?, comment <b>Characteristics:</b> / <pre>•Low clamping voltage / •After a surge impulse the varistor works immediately / in normal mode so there is no slip current / •Excellent absorption at surge impulses</pre><br> / <b>Applications:</b> / <pre> / •12–48 VDC distribution / •110–400 V power supply / •Leakage of voltage peaks / •Surge protection in accordance with EN 61000-4-5 / </pre>
MANUFACTURER: Würth Elektronik eiSos GmbH; CREATED-BY: Christin Zierenner; COMPANY-URL: http://www.we-online.de; CREATED-DATE: May 2012; DATASHEET-URL: http://katalog.we-online.de/kataloge/eisos/index.php?language=en&pf=WE-VD
footprint WE-VD_20MM-DIA
pins: 1, 2

## WE-VD_20MM,820521021
designator D?, comment <b>Characteristics:</b> / <pre>•Low clamping voltage / •After a surge impulse the varistor works immediately / in normal mode so there is no slip current / •Excellent absorption at surge impulses</pre><br> / <b>Applications:</b> / <pre> / •12–48 VDC distribution / •110–400 V power supply / •Leakage of voltage peaks / •Surge protection in accordance with EN 61000-4-5 / </pre>
MANUFACTURER: Würth Elektronik eiSos GmbH; CREATED-BY: Christin Zierenner; COMPANY-URL: http://www.we-online.de; CREATED-DATE: May 2012; DATASHEET-URL: http://katalog.we-online.de/kataloge/eisos/index.php?language=en&pf=WE-VD
footprint WE-VD_20MM-10.4
pins: 1, 2

## WE-VD_20MM,820521102
designator D?, comment <b>Characteristics:</b> / <pre>•Low clamping voltage / •After a surge impulse the varistor works immediately / in normal mode so there is no slip current / •Excellent absorption at surge impulses</pre><br> / <b>Applications:</b> / <pre> / •12–48 VDC distribution / •110–400 V power supply / •Leakage of voltage peaks / •Surge protection in accordance with EN 61000-4-5 / </pre>
MANUFACTURER: Würth Elektronik eiSos GmbH; CREATED-BY: Christin Zierenner; COMPANY-URL: http://www.we-online.de; CREATED-DATE: May 2012; DATASHEET-URL: http://katalog.we-online.de/kataloge/eisos/index.php?language=en&pf=WE-VD
footprint WE-VD_20MM-DIA
pins: 1, 2

## WE-VD_20MM,820521111
designator D?, comment <b>Characteristics:</b> / <pre>•Low clamping voltage / •After a surge impulse the varistor works immediately / in normal mode so there is no slip current / •Excellent absorption at surge impulses</pre><br> / <b>Applications:</b> / <pre> / •12–48 VDC distribution / •110–400 V power supply / •Leakage of voltage peaks / •Surge protection in accordance with EN 61000-4-5 / </pre>
MANUFACTURER: Würth Elektronik eiSos GmbH; CREATED-BY: Christin Zierenner; COMPANY-URL: http://www.we-online.de; CREATED-DATE: May 2012; DATASHEET-URL: http://katalog.we-online.de/kataloge/eisos/index.php?language=en&pf=WE-VD
footprint WE-VD_20MM-DIA
pins: 1, 2

## WE-VD_20MM,820521311
designator D?, comment <b>Characteristics:</b> / <pre>•Low clamping voltage / •After a surge impulse the varistor works immediately / in normal mode so there is no slip current / •Excellent absorption at surge impulses</pre><br> / <b>Applications:</b> / <pre> / •12–48 VDC distribution / •110–400 V power supply / •Leakage of voltage peaks / •Surge protection in accordance with EN 61000-4-5 / </pre>
MANUFACTURER: Würth Elektronik eiSos GmbH; CREATED-BY: Christin Zierenner; COMPANY-URL: http://www.we-online.de; CREATED-DATE: May 2012; DATASHEET-URL: http://katalog.we-online.de/kataloge/eisos/media/pdf/820521311.pdf
footprint WE-VD_20MM-DIA
pins: 1, 2

## WE-VD_20MM,820521402
designator D?, comment <b>Characteristics:</b> / <pre>•Low clamping voltage / •After a surge impulse the varistor works immediately / in normal mode so there is no slip current / •Excellent absorption at surge impulses</pre><br> / <b>Applications:</b> / <pre> / •12–48 VDC distribution / •110–400 V power supply / •Leakage of voltage peaks / •Surge protection in accordance with EN 61000-4-5 / </pre>
MANUFACTURER: Würth Elektronik eiSos GmbH; CREATED-BY: Christin Zierenner; COMPANY-URL: http://www.we-online.de; CREATED-DATE: May 2012; DATASHEET-URL: http://katalog.we-online.de/kataloge/eisos/index.php?language=en&pf=WE-VD
footprint WE-VD_20MM-DIA
pins: 1, 2

## WE-VD_20MM,820521411
designator D?, comment <b>Characteristics:</b> / <pre>•Low clamping voltage / •After a surge impulse the varistor works immediately / in normal mode so there is no slip current / •Excellent absorption at surge impulses</pre><br> / <b>Applications:</b> / <pre> / •12–48 VDC distribution / •110–400 V power supply / •Leakage of voltage peaks / •Surge protection in accordance with EN 61000-4-5 / </pre>
MANUFACTURER: Würth Elektronik eiSos GmbH; CREATED-BY: Christin Zierenner; COMPANY-URL: http://www.we-online.de; CREATED-DATE: May 2012; DATASHEET-URL: http://katalog.we-online.de/kataloge/eisos/index.php?language=en&pf=WE-VD
footprint WE-VD_20MM-DIA
pins: 1, 2

## WE-VD_20MM,820521511
designator D?, comment <b>Characteristics:</b> / <pre>•Low clamping voltage / •After a surge impulse the varistor works immediately / in normal mode so there is no slip current / •Excellent absorption at surge impulses</pre><br> / <b>Applications:</b> / <pre> / •12–48 VDC distribution / •110–400 V power supply / •Leakage of voltage peaks / •Surge protection in accordance with EN 61000-4-5 / </pre>
MANUFACTURER: Würth Elektronik eiSos GmbH; CREATED-BY: Christin Zierenner; COMPANY-URL: http://www.we-online.de; CREATED-DATE: May 2012; DATASHEET-URL: http://katalog.we-online.de/kataloge/eisos/index.php?language=en&pf=WE-VD
footprint WE-VD_20MM-DIA
pins: 1, 2

## WE-VD_20MM,820521702
designator D?, comment <b>Characteristics:</b> / <pre>•Low clamping voltage / •After a surge impulse the varistor works immediately / in normal mode so there is no slip current / •Excellent absorption at surge impulses</pre><br> / <b>Applications:</b> / <pre> / •12–48 VDC distribution / •110–400 V power supply / •Leakage of voltage peaks / •Surge protection in accordance with EN 61000-4-5 / </pre>
MANUFACTURER: Würth Elektronik eiSos GmbH; CREATED-BY: Christin Zierenner; COMPANY-URL: http://www.we-online.de; CREATED-DATE: May 2012; DATASHEET-URL: http://katalog.we-online.de/kataloge/eisos/index.php?language=en&pf=WE-VD
footprint WE-VD_20MM-DIA
pins: 1, 2

## WE-VD_20MM,820521711
designator D?, comment <b>Characteristics:</b> / <pre>•Low clamping voltage / •After a surge impulse the varistor works immediately / in normal mode so there is no slip current / •Excellent absorption at surge impulses</pre><br> / <b>Applications:</b> / <pre> / •12–48 VDC distribution / •110–400 V power supply / •Leakage of voltage peaks / •Surge protection in accordance with EN 61000-4-5 / </pre>
MANUFACTURER: Würth Elektronik eiSos GmbH; CREATED-BY: Christin Zierenner; COMPANY-URL: http://www.we-online.de; CREATED-DATE: May 2012; DATASHEET-URL: http://katalog.we-online.de/kataloge/eisos/index.php?language=en&pf=WE-VD
footprint WE-VD_20MM-DIA
pins: 1, 2

## WE-VD_20MM,820521911
designator D?, comment <b>Characteristics:</b> / <pre>•Low clamping voltage / •After a surge impulse the varistor works immediately / in normal mode so there is no slip current / •Excellent absorption at surge impulses</pre><br> / <b>Applications:</b> / <pre> / •12–48 VDC distribution / •110–400 V power supply / •Leakage of voltage peaks / •Surge protection in accordance with EN 61000-4-5 / </pre>
MANUFACTURER: Würth Elektronik eiSos GmbH; CREATED-BY: Christin Zierenner; COMPANY-URL: http://www.we-online.de; CREATED-DATE: May 2012; DATASHEET-URL: http://katalog.we-online.de/kataloge/eisos/index.php?language=en&pf=WE-VD
footprint WE-VD_20MM-DIA
pins: 1, 2

## WE-VD_20MM,820522002
designator D?, comment <b>Characteristics:</b> / <pre>•Low clamping voltage / •After a surge impulse the varistor works immediately / in normal mode so there is no slip current / •Excellent absorption at surge impulses</pre><br> / <b>Applications:</b> / <pre> / •12–48 VDC distribution / •110–400 V power supply / •Leakage of voltage peaks / •Surge protection in accordance with EN 61000-4-5 / </pre>
MANUFACTURER: Würth Elektronik eiSos GmbH; CREATED-BY: Christin Zierenner; COMPANY-URL: http://www.we-online.de; CREATED-DATE: May 2012; DATASHEET-URL: http://katalog.we-online.de/kataloge/eisos/index.php?language=en&pf=WE-VD
footprint WE-VD_20MM-DIA
pins: 1, 2

## WE-VD_20MM,820522111
designator D?, comment <b>Characteristics:</b> / <pre>•Low clamping voltage / •After a surge impulse the varistor works immediately / in normal mode so there is no slip current / •Excellent absorption at surge impulses</pre><br> / <b>Applications:</b> / <pre> / •12–48 VDC distribution / •110–400 V power supply / •Leakage of voltage peaks / •Surge protection in accordance with EN 61000-4-5 / </pre>
MANUFACTURER: Würth Elektronik eiSos GmbH; CREATED-BY: Christin Zierenner; COMPANY-URL: http://www.we-online.de; CREATED-DATE: May 2012; DATASHEET-URL: http://katalog.we-online.de/kataloge/eisos/index.php?language=en&pf=WE-VD
footprint WE-VD_20MM-DIA
pins: 1, 2

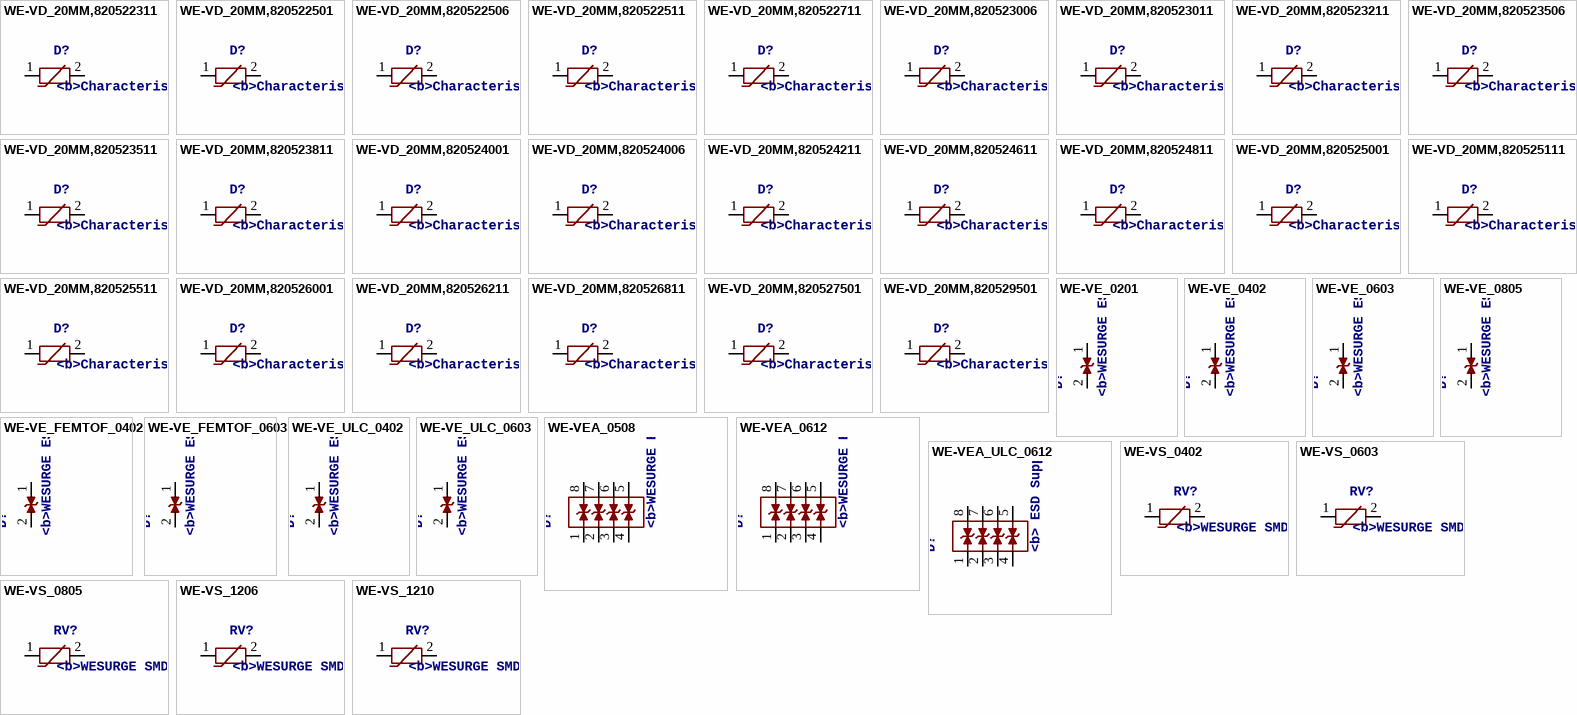
[diagram p41: symbols WE-VD_20MM,820522311 to WE-VS_1210]

## WE-VD_20MM,820522311
designator D?, comment <b>Characteristics:</b> / <pre>•Low clamping voltage / •After a surge impulse the varistor works immediately / in normal mode so there is no slip current / •Excellent absorption at surge impulses</pre><br> / <b>Applications:</b> / <pre> / •12–48 VDC distribution / •110–400 V power supply / •Leakage of voltage peaks / •Surge protection in accordance with EN 61000-4-5 / </pre>
MANUFACTURER: Würth Elektronik eiSos GmbH; CREATED-BY: Christin Zierenner; COMPANY-URL: http://www.we-online.de; CREATED-DATE: May 2012; DATASHEET-URL: http://katalog.we-online.de/kataloge/eisos/index.php?language=en&pf=WE-VD
footprint WE-VD_20MM-DIA
pins: 1, 2

## WE-VD_20MM,820522501
designator D?, comment <b>Characteristics:</b> / <pre>•Low clamping voltage / •After a surge impulse the varistor works immediately / in normal mode so there is no slip current / •Excellent absorption at surge impulses</pre><br> / <b>Applications:</b> / <pre> / •12–48 VDC distribution / •110–400 V power supply / •Leakage of voltage peaks / •Surge protection in accordance with EN 61000-4-5 / </pre>
MANUFACTURER: Würth Elektronik eiSos GmbH; CREATED-BY: Christin Zierenner; COMPANY-URL: http://www.we-online.de; CREATED-DATE: May 2012; DATASHEET-URL: http://katalog.we-online.de/kataloge/eisos/index.php?language=en&pf=WE-VD
footprint WE-VD_20MM-DIA
pins: 1, 2

## WE-VD_20MM,820522506
designator D?, comment <b>Characteristics:</b> / <pre>•Low clamping voltage / •After a surge impulse the varistor works immediately / in normal mode so there is no slip current / •Excellent absorption at surge impulses</pre><br> / <b>Applications:</b> / <pre> / •12–48 VDC distribution / •110–400 V power supply / •Leakage of voltage peaks / •Surge protection in accordance with EN 61000-4-5 / </pre>
MANUFACTURER: Würth Elektronik eiSos GmbH; CREATED-BY: Christin Zierenner; COMPANY-URL: http://www.we-online.de; CREATED-DATE: May 2012; DATASHEET-URL: http://katalog.we-online.de/kataloge/eisos/index.php?language=en&pf=WE-VD
footprint WE-VD_20MM-DIA
pins: 1, 2

## WE-VD_20MM,820522511
designator D?, comment <b>Characteristics:</b> / <pre>•Low clamping voltage / •After a surge impulse the varistor works immediately / in normal mode so there is no slip current / •Excellent absorption at surge impulses</pre><br> / <b>Applications:</b> / <pre> / •12–48 VDC distribution / •110–400 V power supply / •Leakage of voltage peaks / •Surge protection in accordance with EN 61000-4-5 / </pre>
MANUFACTURER: Würth Elektronik eiSos GmbH; CREATED-BY: Christin Zierenner; COMPANY-URL: http://www.we-online.de; CREATED-DATE: May 2012; DATASHEET-URL: http://katalog.we-online.de/kataloge/eisos/media/pdf/820522511.pdf
footprint WE-VD_20MM-0.9
pins: 1, 2

## WE-VD_20MM,820522711
designator D?, comment <b>Characteristics:</b> / <pre>•Low clamping voltage / •After a surge impulse the varistor works immediately / in normal mode so there is no slip current / •Excellent absorption at surge impulses</pre><br> / <b>Applications:</b> / <pre> / •12–48 VDC distribution / •110–400 V power supply / •Leakage of voltage peaks / •Surge protection in accordance with EN 61000-4-5 / </pre>
MANUFACTURER: Würth Elektronik eiSos GmbH; CREATED-BY: Christin Zierenner; COMPANY-URL: http://www.we-online.de; CREATED-DATE: May 2012; DATASHEET-URL: http://katalog.we-online.de/kataloge/eisos/media/pdf/820522711.pdf
footprint WE-VD_20MM-1.1
pins: 1, 2

## WE-VD_20MM,820523006
designator D?, comment <b>Characteristics:</b> / <pre>•Low clamping voltage / •After a surge impulse the varistor works immediately / in normal mode so there is no slip current / •Excellent absorption at surge impulses</pre><br> / <b>Applications:</b> / <pre> / •12–48 VDC distribution / •110–400 V power supply / •Leakage of voltage peaks / •Surge protection in accordance with EN 61000-4-5 / </pre>
MANUFACTURER: Würth Elektronik eiSos GmbH; CREATED-BY: Christin Zierenner; COMPANY-URL: http://www.we-online.de; CREATED-DATE: May 2012; DATASHEET-URL: http://katalog.we-online.de/kataloge/eisos/media/pdf/820523006.pdf
footprint WE-VD_20MM-DIA
pins: 1, 2